# Altium schematic symbol library CC0603KRX7R9BB102.SchLib: 1 symbol
Pins are listed as number, name and electrical type; pins without a type are passive.

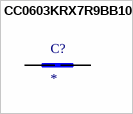
[diagram p0: symbol CC0603KRX7R9BB102]

## CC0603KRX7R9BB102
designator C?
1000pF Â±10% 50V Ceramic Capacitor X7R 0603 (1608 Metric); MF: Yageo; MP: CC0603KRX7R9BB102; Purchase-URL: https://pricing.snapeda.com/search/part/CC0603KRX7R9BB102/?ref=eda; Price: None; SnapEDA_Link: https://www.snapeda.com/parts/CC0603KRX7R9BB102/Yageo/view-part/105557/?ref=snap; Check_prices: https://www.snapeda.com/parts/CC0603KRX7R9BB102/Yageo/view-part/105557/?ref=eda; Package: 0603 Yageo; Availability: Good; Value: *
pins: 1, 2